# Altium footprint library Switch.PcbLib: 18 footprints (part 2 of 2)
Each footprint in its own frame and in the unit in brackets; x right, y up, seen from the top. Pads: shape width x height; smd on the part's side, far side on the other; paste and mask are expansions set on the pad; w line width, h text height; cw(c..) or ccw(c..) is an arc to the next point about the centre after c.
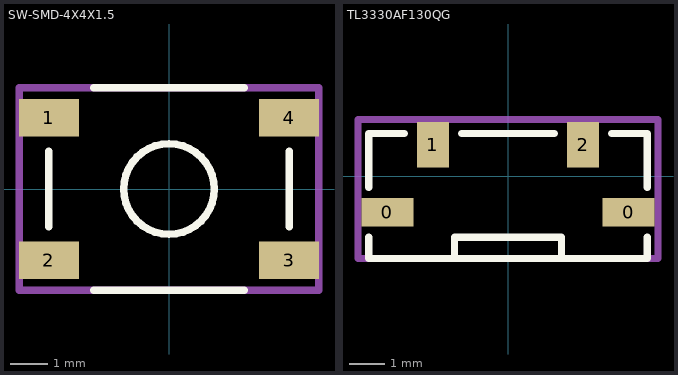
[diagram p1: the footprints below, top view; thin cyan lines are the x and y axes]

## SW-SMD-4X4X1.5 [mm]
pads (4):
  rect 1.6x1 smd: 1(-3.2,1.9) 2(-3.2,-1.9) 3(3.2,-1.9) 4(3.2,1.9)
Top Overlay:
  circle w0.2: c0,0 r1.208
  lines w0.2: -3.2,-1 -3.2,1 ; -2,-2.7 2,-2.7 ; -2,2.7 2,2.7 ; 3.2,-1 3.2,1
Mechanical 13:
  lines w0.2: -4,-2.7 -4,2.7 4,2.7 4,-2.7 -4,-2.7
  text ".Designator" at -3.2,-0.4 h1.5
Mechanical 15:
  lines w0.2: -4,-2.7 4,-2.7 4,2.7 -4,2.7 -4,-2.7
  text ".Comment" at -3.2,-0.4 h1.5
3D body "User Library-button1.step": height 1.5, standoff 0, extent -3.2,-2.65 3.203,2.65

## TL3330AF130QG [mm]
pads (4):
  rect 1.45x0.8 smd: 0(-3.375,-1) 0(3.375,-1)
  rect 0.9x1.27 smd: 1(-2.1,0.885) 2(2.1,0.885)
Top Overlay:
  lines w0.2: -3.9,-1.7 -3.9,-2.3 3.9,-2.3 3.9,-1.7 ; -3.9,-0.3 -3.9,1.2 -2.9,1.2 ; -1.5,-2.3 -1.5,-1.7 1.5,-1.7 1.5,-2.3 ; -1.3,1.2 1.3,1.2 ; 2.9,1.2 3.9,1.2 3.9,-0.3
Mechanical 13:
  lines w0.2: -4.2,-2.3 4.2,-2.3 4.2,1.6 -4.2,1.6 -4.2,-2.3
  text ".Designator" at -2.4,-0.6 h1
Mechanical 15:
  lines w0.2: -4.2,-2.3 -4.2,1.6 4.2,1.6 4.2,-2.3 -4.2,-2.3
  text ".Comment" at -2.4,-0.6 h1
3D body "TL3330AFxxxQG.stp": height 3.5, standoff 0, extent -3.9,-2.3 3.9,1.209